# Altium schematic symbol library S.SchLib: 1 symbol
Pins are listed as number, name and electrical type; pins without a type are passive.

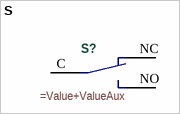
[diagram p0: symbol S]

## S
designator S?
=Description
pins: C, NC, NO